# Altium footprint library Componentes Deived Projetos PCB.PcbLib: 87 footprints (part 1 of 6)
Each footprint in its own frame and in the unit in brackets; x right, y up, seen from the top. Pads: shape width x height; smd on the part's side, far side on the other; paste and mask are expansions set on the pad; w line width, h text height; cw(c..) or ccw(c..) is an arc to the next point about the centre after c.
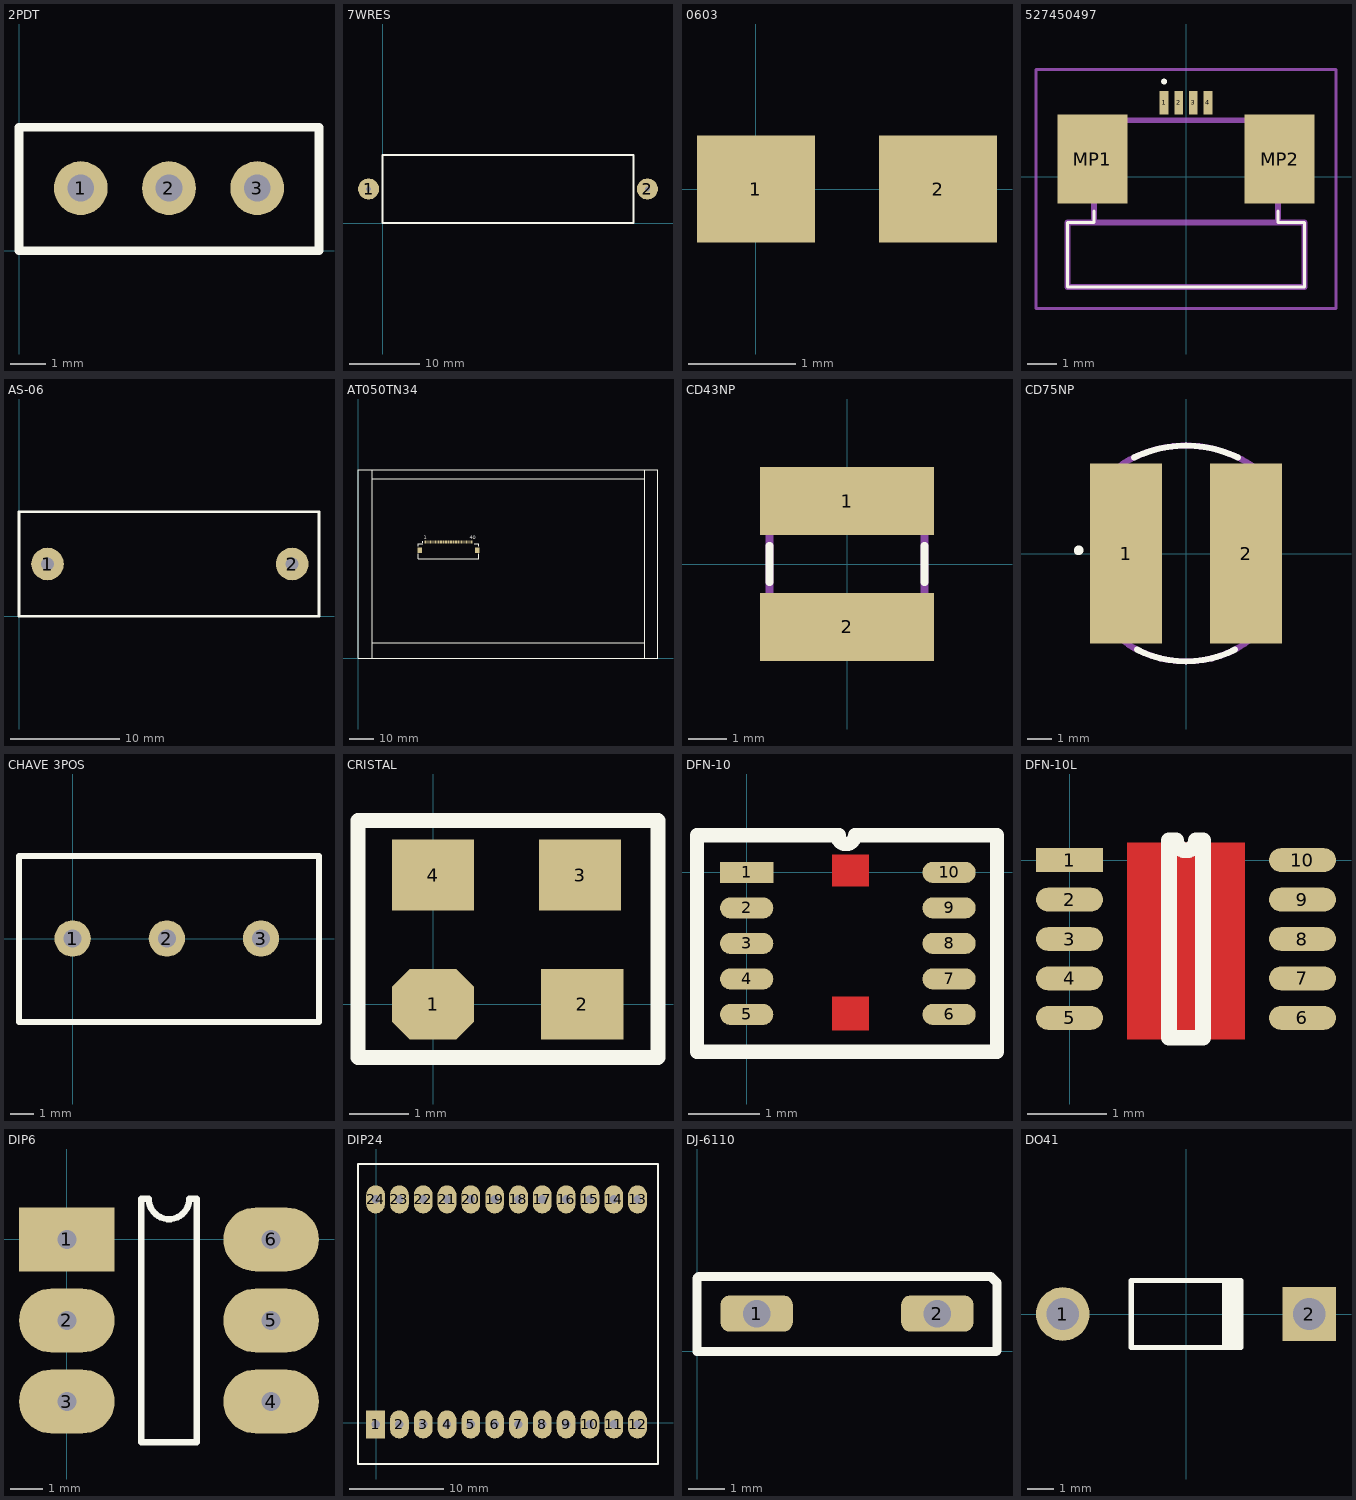
[diagram p0: the footprints below, top view; thin cyan lines are the x and y axes]

## 2PDT [mil]
pads (3):
  round 60 hole 30: 1(68.9,69.88) 2(167.32,69.88) 3(265.75,69.88)
Top Overlay:
  lines w10: 0,0 0,137.8 334.65,137.8 334.65,0 0,0

## 7WRES [mm]
pads (2):
  round 3 hole 0.762: 1(-2,4.845) 2(37.62,4.845)
Top Overlay:
  lines w0.254: 0,0 0,9.69 35.65,9.69 35.65,0 0,0

## 0603 [mm]
pads (2):
  rect 1.1x1 smd: 1(0,0) 2(1.7,0)

## 527450497 [mm]
pads (6):
  rect 0.3x0.8 smd: 1(-0.75,2.525) 2(-0.25,2.525) 3(0.25,2.525) 4(0.75,2.525)
  rect 2.4x3.05 smd: MP1(-3.2,0.6) MP2(3.2,0.6)
Top Overlay:
  lines w0.1: -3.15,-1.175 -3.15,-1.575 -4.05,-1.575 -4.05,-3.775 4.05,-3.775 4.05,-1.575 3.15,-1.575 3.15,-1.175 ; -0.75,3.2 cw(c-0.75,3.25) -0.75,3.3 cw(c-0.75,3.25) -0.75,3.2
Mechanical 13:
  lines w0.2: -4.05,-3.775 -4.05,-1.575 4.05,-1.575 4.05,-3.775 -4.05,-3.775 ; -3.15,-1.575 -3.15,1.925 3.15,1.925 3.15,-1.575 -3.15,-1.575
Mechanical 15:
  lines w0.1: -5.13,-4.505 -5.13,3.655 5.13,3.655 5.13,-4.505 -5.13,-4.505
3D body "52745-0497.stp": height 2, standoff 0, extent -4.05,-3.775 4.05,2.625

## AS-06 [mm]
pads (2):
  round 3 hole 1.2: 1(2.625,4.8) 2(25.125,4.8)
Top Overlay:
  lines w0.254: 0,0 27.6,0 27.6,9.6 0,9.6 0,0

## AT050TN34 [mm]
pads (42):
  rect 0.3x1.3 smd: 1(26.661,46.748) 2(27.161,46.748) 3(27.661,46.748) 4(28.161,46.748) 5(28.661,46.748) 6(29.161,46.748) 7(29.661,46.748) 8(30.161,46.748) 9(30.661,46.748) 10(31.161,46.748) 11(31.661,46.748) 12(32.161,46.748) 13(32.661,46.748) 14(33.161,46.748) 15(33.661,46.748) 16(34.161,46.748) 17(34.661,46.748) 18(35.161,46.748) 19(35.661,46.748) 20(36.161,46.748) 21(36.661,46.748) 22(37.161,46.748) 23(37.661,46.748) 24(38.161,46.748) 25(38.661,46.748) 26(39.161,46.748) 27(39.661,46.748) 28(40.161,46.748) 29(40.661,46.748) 30(41.161,46.748) 31(41.661,46.748) 32(42.161,46.748) 33(42.661,46.748) 34(43.161,46.748) 35(43.661,46.748) 36(44.161,46.748) 37(44.661,46.748) 38(45.161,46.748) 39(45.661,46.748) 40(46.161,46.748)
  rect 1.8x2.2 smd: 41(24.761,43.498) 42(48.061,43.498)
Top Overlay:
  circle w0.25: c25.961,46.748 r0.125
  lines w0.2: 24.161,41.998 24.161,39.923 48.661,39.923 48.661,41.998 ; 24.161,44.998 24.161,46.123 26.111,46.123 ; 46.711,46.123 48.661,46.123 48.661,44.998
  lines w0.254: 5.65,0.05 5.65,6.275 ; 5.65,75.725 5.65,72.225 ; 115.325,0.025 115.325,6.275 ; 115.325,75.675 115.325,72.225 ; 5.65,6.275 115.325,6.275 ; 5.65,6.275 5.65,72.225 ; 5.65,72.225 115.325,72.225 ; 115.325,6.275 115.325,72.225 ; 0,0 0,75.8 120.7,75.8 120.7,0 0,0
  text "40" at 45.061,47.848 h1.5
  text "1" at 26.411,47.848 h1.5

## CD43NP [mm]
pads (2):
  rect 4.5x1.75 smd: 1(0,1.625) 2(0,-1.625)
Top Overlay:
  lines w0.2: -2,-0.47 -2,0.47 ; 2,-0.47 2,0.47
Mechanical 13:
  lines w0.2: -2,-1.25 -2,1.25 cw(c0,-0.242) 2.001,1.249 2,-1.25 ; -1.998,-1.252 ccw(c0,0.248) 2.001,-1.249

## CD75NP [mm]
pads (2):
  rect 3x7.5 smd: 1(-2.5,0) 2(2.5,0)
Top Layer:
  lines w0.254: -2.55,0 -2.5,0
Top Overlay:
  circle w0.254: c-4.473,0.131 r0.073
  lines w0.254: -2.164,4 cw(c0,-0.437) 2.164,4 ; -2.043,-4 ccw(c0,-0.075) 2.043,-4
Mechanical 13:
  lines w0.254: -3.503,3.042 cw(c0,-0.437) 3.497,3.048 ; -3.5,-2.783 -3.5,3.045 ; -3.497,-2.787 ccw(c0,-0.075) 3.502,-2.781 ; 3.5,-2.783 3.5,3.045

## CHAVE 3POS [mil]
pads (3):
  round 60 hole 30: 1(0,0) 2(155.51,0) 3(311.02,0)
Top Overlay:
  lines w10: -88.58,-137.8 -88.58,136.22 406.69,136.22 406.69,-137.8 -88.58,-137.8

## CRISTAL [mm]
pads (4):
  oct 1.4x1.2 smd: 1(0,0)
  rect 1.4x1.2 smd: 2(2.54,0) 3(2.5,2.2) 4(0,2.2)
Top Overlay:
  lines w0.254: -1.275,-0.9 3.825,-0.9 3.825,3.125 -1.275,3.125 -1.275,-0.9

## DFN-10 [mm]
pads (10):
  rect 0.75x0.3 smd: 1(0,0)
  oval 0.75x0.3 smd: 2(0,-0.5) 3(0,-1) 4(0,-1.5) 5(0,-2) 6(2.85,-2) 7(2.85,-1.5) 8(2.85,-1) 9(2.85,-0.5) 10(2.85,0)
Top Layer:
  rectangle: 1.2,-2.225 1.725,-1.75
  rectangle: 1.2,-0.2 1.725,0.25
Top Overlay:
  lines w0.2: 1.275,0.525 ccw(c1.4,0.525) 1.525,0.525 ; 1.3,0.525 -0.7,0.525 -0.7,-2.525 3.525,-2.525 3.525,0.525 1.55,0.525

## DFN-10L [mm]
pads (10):
  rect 0.85x0.3 smd: 1(0,0)
  oval 0.85x0.3 smd: 2(0,-0.5) 3(0,-1) 4(0,-1.5) 5(0,-2) 6(2.95,-2) 7(2.95,-1.5) 8(2.95,-1) 9(2.95,-0.5) 10(2.95,0)
Top Layer:
  region: 2.225,-2.275 2.225,0.225 0.725,0.225 0.725,-2.275
Top Overlay:
  lines w0.2: 1.26,-2.25 1.26,0.25 1.35,0.25 ccw(c1.475,0.25) 1.6,0.25 1.69,0.25 1.69,-2.25 1.26,-2.25

## DIP6 [mm]
pads (6):
  rect 3x2 hole 0.6: 1(0,0)
  oval 3x2 hole 0.6: 2(0,-2.54) 3(0,-5.08) 4(6.4,-5.08) 5(6.4,-2.54) 6(6.4,0)
Top Overlay:
  lines w0.2: 2.335,-6.35 4.065,-6.35 4.065,1.27 3.835,1.27 cw(c3.2,1.27) 2.565,1.27 2.335,1.27 2.335,-6.35

## DIP24 [mm]
pads (24):
  rect 2x3 hole 0.9: 1(-0.075,-0.175)
  oval 2x3 hole 0.9: 2(2.465,-0.175) 3(5.005,-0.175) 4(7.545,-0.175) 5(10.085,-0.175) 6(12.625,-0.175) 7(15.165,-0.175) 8(17.705,-0.175) 9(20.245,-0.175) 10(22.785,-0.175) 11(25.325,-0.175) 12(27.865,-0.175) 13(27.865,23.825) 14(25.325,23.825) 15(22.785,23.825) 16(20.245,23.825) 17(17.705,23.825) 18(15.165,23.825) 19(12.625,23.825) 20(10.085,23.825) 21(7.545,23.825) 22(5.005,23.825) 23(2.465,23.825) 24(-0.075,23.825)
Top Overlay:
  lines w0.254: -1.95,-4.4 -1.95,27.6 30.05,27.6 30.05,-4.4 -1.95,-4.4

## DJ-6110 [mm]
pads (2):
  rrect50% 2x1 hole 0.762: 1(1.65,1.05) 2(6.65,1.05)
Top Overlay:
  lines w0.254: 0,0 0,1.775 0,2.025 0.05,2.075 8.125,2.075 8.3,1.9 8.3,0.025 8.275,0 1.95,0 0,0

## DO41 [mm]
pads (2):
  round 2 hole 1.2: 1(-4.6,0)
  rect 2x2 hole 1.2: 2(4.6,0)
Top Overlay:
  rectangle: 1.35,-1.25 2.15,1.25
  lines w0.2: 2.05,-1.25 -2.05,-1.25 -2.05,1.25 2.05,1.25